# Altium footprint library SNP333.PcbLib: 10 footprints
Each footprint in its own frame and in the unit in brackets; x right, y up, seen from the top. Pads: shape width x height; smd on the part's side, far side on the other; paste and mask are expansions set on the pad; w line width, h text height; cw(c..) or ccw(c..) is an arc to the next point about the centre after c.
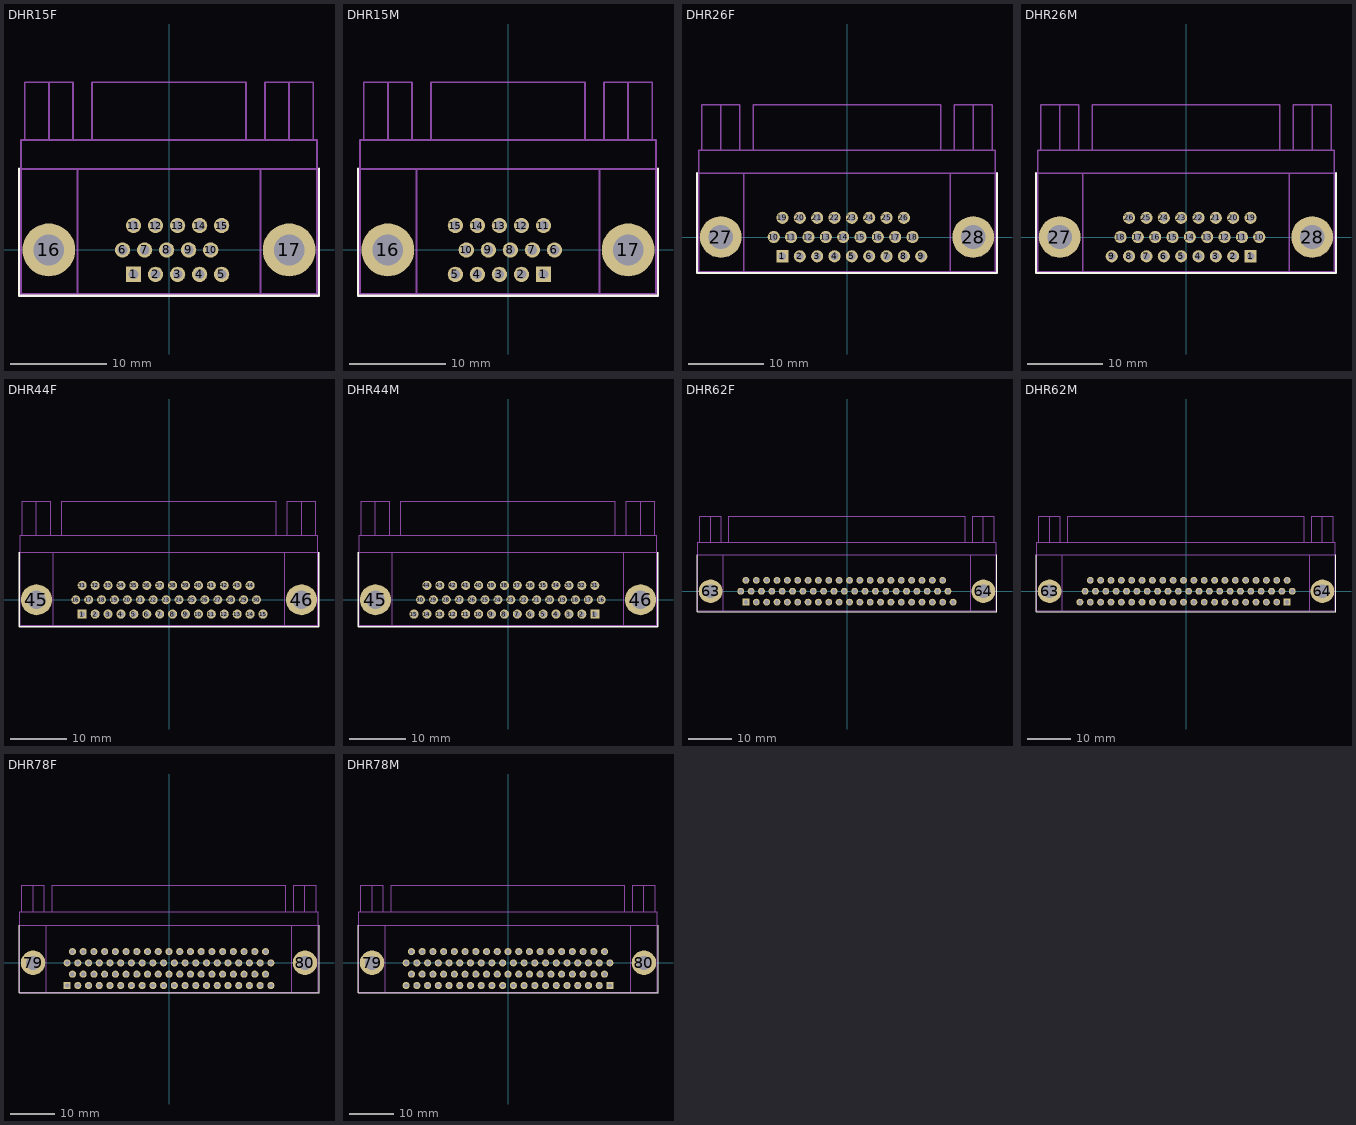
[diagram p0: the footprints below, top view; thin cyan lines are the x and y axes]

## DHR15F [mm]
pads (17):
  rect 1.6x1.6 hole 1: 1(-3.69,-2.54)
  round 1.6 hole 1: 2(-1.4,-2.54) 3(0.89,-2.54) 4(3.18,-2.54) 5(5.47,-2.54) 6(-4.83,0) 7(-2.54,0) 8(-0.25,0) 9(2.04,0) 10(4.33,0) 11(-3.69,2.54) 12(-1.4,2.54) 13(0.89,2.54) 14(3.18,2.54) 15(5.47,2.54)
  round 5.5 hole 3.2: 16(-12.5,0) 17(12.5,0)
Top Overlay:
  lines w0.25: -15.6,8.44 -15.6,-4.76 15.6,-4.76 15.6,-4.56 15.6,8.44
Mechanical 1:
  lines w0.2: -15.4,8.44 15.4,8.44 ; -15,11.44 -15,17.44 -10,17.44 -10,11.44 ; -12.5,11.44 -12.5,17.44 ; -9.5,-4.56 -9.5,8.44 ; -8,11.44 -8,17.44 8,17.44 8,11.44 ; 9.5,-4.56 9.5,8.44 ; 10,11.44 10,17.44 15,17.44 15,11.44 ; 12.5,11.44 12.5,17.44 ; -15.4,-4.56 15.4,-4.56 15.4,11.44 -15.4,11.44 -15.4,-4.56
  text ".Designator" at -3.175,9.779 h1.5
  text ".Comment" at -3.048,5.969 h1.5
  text "5" at 6.985,-3.683 h2.12
  text "15" at 6.858,1.397 h2.12
  text "1" at -6.528,-3.657 h2.12
  text "10" at 5.715,-1.143 h2.12
  text "6" at -7.528,-1.157 h2.12
  text "11" at -7.424,1.343 h2.12

## DHR15M [mm]
pads (17):
  rect 1.6x1.6 hole 1: 1(3.69,-2.54)
  round 1.6 hole 1: 2(1.4,-2.54) 3(-0.89,-2.54) 4(-3.18,-2.54) 5(-5.47,-2.54) 6(4.83,0) 7(2.54,0) 8(0.25,0) 9(-2.04,0) 10(-4.33,0) 11(3.69,2.54) 12(1.4,2.54) 13(-0.89,2.54) 14(-3.18,2.54) 15(-5.47,2.54)
  round 5.5 hole 3.2: 16(-12.5,0) 17(12.5,0)
Top Overlay:
  lines w0.25: -15.6,8.44 -15.6,-4.76 15.6,-4.76 15.6,-4.56 15.6,8.44
Mechanical 1:
  lines w0.2: -15.4,8.44 15.4,8.44 ; -15,11.44 -15,17.44 -10,17.44 -10,11.44 ; -12.5,11.44 -12.5,17.44 ; -9.5,-4.56 -9.5,8.44 ; -8,11.44 -8,17.44 8,17.44 8,11.44 ; 9.5,-4.56 9.5,8.44 ; 10,11.44 10,17.44 15,17.44 15,11.44 ; 12.5,11.44 12.5,17.44 ; -15.4,-4.56 -15.4,11.44 15.4,11.44 15.4,-4.56 -15.4,-4.56
  text "11" at 5.226,1.283 h2.12
  text "1" at 5.622,-3.797 h2.12
  text "10" at -7.924,-1.157 h2.12
  text "15" at -8.744,1.283 h2.12
  text "6" at 6.892,-1.257 h2.12
  text "5" at -8.348,-3.797 h2.12

## DHR26F [mm]
pads (28):
  rect 1.6x1.6 hole 1: 1(-8.52,-2.54)
  round 1.6 hole 1: 2(-6.23,-2.54) 3(-3.94,-2.54) 4(-1.65,-2.54) 5(0.64,-2.54) 6(2.93,-2.54) 7(5.22,-2.54) 8(7.51,-2.54) 9(9.8,-2.54) 10(-9.67,0) 11(-7.38,0) 12(-5.09,0) 13(-2.8,0) 14(-0.51,0) 15(1.78,0) 16(4.07,0) 17(6.36,0) 18(8.65,0) 19(-8.52,2.54) 20(-6.23,2.54) 21(-3.94,2.54) 22(-1.65,2.54) 23(0.64,2.54) 24(2.93,2.54) 25(5.22,2.54) 26(7.51,2.54)
  round 5.5 hole 3.2: 27(-16.65,0) 28(16.65,0)
Top Overlay:
  lines w0.25: -19.8,8.44 -19.8,-4.76 19.8,-4.76 19.8,8.44
Mechanical 1:
  lines w0.2: -19.6,8.44 19.6,8.44 ; -19.15,11.44 -19.15,17.44 -14.15,17.44 -14.15,11.44 ; -16.65,11.44 -16.65,17.44 ; -13.65,-4.56 -13.65,8.44 ; -12.35,11.44 -12.35,17.44 12.35,17.44 12.35,11.44 ; 13.65,-4.56 13.65,8.44 ; 14.15,11.44 14.15,17.44 19.15,17.44 19.15,11.44 ; 16.65,11.44 16.65,17.44 ; -19.6,-4.56 19.6,-4.56 19.6,11.44 -19.6,11.44 -19.6,-4.56
  text "9" at 11.272,-3.717 h2.12
  text "1" at -11.728,-3.717 h2.12
  text "26" at 8.876,1.283 h2.12
  text "18" at 10.376,-1.217 h2.12
  text "19" at -12.124,1.283 h2.12
  text "10" at -13.124,-1.217 h2.12

## DHR26M [mm]
pads (28):
  rect 1.6x1.6 hole 1: 1(8.52,-2.54)
  round 1.6 hole 1: 2(6.23,-2.54) 3(3.94,-2.54) 4(1.65,-2.54) 5(-0.64,-2.54) 6(-2.93,-2.54) 7(-5.22,-2.54) 8(-7.51,-2.54) 9(-9.8,-2.54) 10(9.67,0) 11(7.38,0) 12(5.09,0) 13(2.8,0) 14(0.51,0) 15(-1.78,0) 16(-4.07,0) 17(-6.36,0) 18(-8.65,0) 19(8.52,2.54) 20(6.23,2.54) 21(3.94,2.54) 22(1.65,2.54) 23(-0.64,2.54) 24(-2.93,2.54) 25(-5.22,2.54) 26(-7.51,2.54)
  round 5.5 hole 3.2: 27(-16.65,0) 28(16.65,0)
Top Overlay:
  lines w0.25: -19.8,8.44 -19.8,-4.76 19.8,-4.76 19.8,8.44
Mechanical 1:
  lines w0.2: -19.6,8.44 19.6,8.44 ; -19.15,11.44 -19.15,17.44 -14.15,17.44 -14.15,11.44 ; -16.65,11.44 -16.65,17.44 ; -13.65,-4.56 -13.65,8.44 ; -12.35,11.44 -12.35,17.44 12.35,17.44 12.35,11.44 ; 13.65,-4.56 13.65,8.44 ; 14.15,11.44 14.15,17.44 19.15,17.44 19.15,11.44 ; 16.65,11.44 16.65,17.44 ; -19.6,-4.56 19.6,-4.56 19.6,11.44 -19.6,11.44 -19.6,-4.56
  text "1" at 9.432,-3.797 h2.12
  text "9" at -12.158,-3.797 h2.12
  text "19" at 10.306,1.283 h2.12
  text "10" at 10.376,-1.217 h2.12
  text "18" at -12.554,-1.257 h2.12
  text "26" at -11.284,1.283 h2.12

## DHR44F [mm]
pads (46):
  rect 1.6x1.6 hole 1: 1(-15.39,-2.54)
  round 1.6 hole 1: 2(-13.1,-2.54) 3(-10.81,-2.54) 4(-8.52,-2.54) 5(-6.23,-2.54) 6(-3.94,-2.54) 7(-1.65,-2.54) 8(0.64,-2.54) 9(2.93,-2.54) 10(5.22,-2.54) 11(7.51,-2.54) 12(9.8,-2.54) 13(12.09,-2.54) 14(14.38,-2.54) 15(16.67,-2.54) 16(-16.54,0) 17(-14.25,0) 18(-11.96,0) 19(-9.67,0) 20(-7.38,0) 21(-5.09,0) 22(-2.8,0) 23(-0.51,0) 24(1.78,0) 25(4.07,0) 26(6.36,0) 27(8.65,0) 28(10.94,0) 29(13.23,0) 30(15.52,0) 31(-15.39,2.54) 32(-13.1,2.54) 33(-10.81,2.54) 34(-8.52,2.54) 35(-6.23,2.54) 36(-3.94,2.54) 37(-1.65,2.54) 38(0.64,2.54) 39(2.93,2.54) 40(5.22,2.54) 41(7.51,2.54) 42(9.8,2.54) 43(12.09,2.54) 44(14.38,2.54)
  round 5.5 hole 3.2: 45(-23.5,0) 46(23.5,0)
Top Overlay:
  lines w0.25: -26.6,8.44 -26.6,-4.76 26.6,-4.76 26.6,-4.56 26.6,8.44
Mechanical 1:
  lines w0.2: -26.4,8.44 26.4,8.44 ; -26,11.44 -26,17.44 -21,17.44 -21,11.44 ; -23.5,11.44 -23.5,17.44 ; -20.5,-4.56 -20.5,8.44 ; -19,11.44 -19,17.44 19,17.44 19,11.44 ; 20.5,-4.56 20.5,8.44 ; 21,11.44 21,17.44 26,17.44 26,11.44 ; 23.5,11.44 23.5,17.44 ; -26.4,-4.56 26.4,-4.56 26.4,11.44 -26.4,11.44 -26.4,-4.56
  text "15" at 17.276,-3.717 h2.12
  text "1" at -18.828,-3.717 h2.12
  text "30" at 16.776,-1.217 h2.12
  text "44" at 15.276,1.283 h2.12
  text "16" at -20.224,-1.217 h2.12
  text "31" at -19.224,1.283 h2.12

## DHR44M [mm]
pads (46):
  rect 1.6x1.6 hole 1: 1(15.39,-2.54)
  round 1.6 hole 1: 2(13.1,-2.54) 3(10.81,-2.54) 4(8.52,-2.54) 5(6.23,-2.54) 6(3.94,-2.54) 7(1.65,-2.54) 8(-0.64,-2.54) 9(-2.93,-2.54) 10(-5.22,-2.54) 11(-7.51,-2.54) 12(-9.8,-2.54) 13(-12.09,-2.54) 14(-14.38,-2.54) 15(-16.67,-2.54) 16(16.54,0) 17(14.25,0) 18(11.96,0) 19(9.67,0) 20(7.38,0) 21(5.09,0) 22(2.8,0) 23(0.51,0) 24(-1.78,0) 25(-4.07,0) 26(-6.36,0) 27(-8.65,0) 28(-10.94,0) 29(-13.23,0) 30(-15.52,0) 31(15.39,2.54) 32(13.1,2.54) 33(10.81,2.54) 34(8.52,2.54) 35(6.23,2.54) 36(3.94,2.54) 37(1.65,2.54) 38(-0.64,2.54) 39(-2.93,2.54) 40(-5.22,2.54) 41(-7.51,2.54) 42(-9.8,2.54) 43(-12.09,2.54) 44(-14.38,2.54)
  round 5.5 hole 3.2: 45(-23.5,0) 46(23.5,0)
Top Overlay:
  lines w0.25: -26.6,8.44 -26.6,-4.76 26.6,-4.76 26.6,-4.56 26.6,8.44
Mechanical 1:
  lines w0.2: -26.4,8.44 26.4,8.44 ; -26,11.44 -26,17.44 -21,17.44 -21,11.44 ; -23.5,11.44 -23.5,17.44 ; -20.5,-4.56 -20.5,8.44 ; -19,11.44 -19,17.44 19,17.44 19,11.44 ; 20.5,-4.56 20.5,8.44 ; 21,11.44 21,17.44 26,17.44 26,11.44 ; 23.5,11.44 23.5,17.44 ; -26.4,-4.56 26.4,-4.56 26.4,11.44 -26.4,11.44 -26.4,-4.56
  text "1" at 17.052,-3.797 h2.12
  text "15" at -20.174,-3.797 h2.12
  text "31" at 16.656,1.283 h2.12
  text "16" at 17.926,-1.257 h2.12
  text "44" at -17.634,1.283 h2.12
  text "30" at -18.904,-1.257 h2.12

## DHR62F [mm]
pads (64):
  rect 1.6x1.6 hole 1: 1(-23.52,-2.54)
  round 1.6 hole 1: 2(-21.11,-2.54) 3(-18.7,-2.54) 4(-16.29,-2.54) 5(-13.88,-2.54) 6(-11.47,-2.54) 7(-9.06,-2.54) 8(-6.65,-2.54) 9(-4.24,-2.54) 10(-1.83,-2.54) 11(0.58,-2.54) 12(2.99,-2.54) 13(5.4,-2.54) 14(7.81,-2.54) 15(10.22,-2.54) 16(12.63,-2.54) 17(15.04,-2.54) 18(17.45,-2.54) 19(19.86,-2.54) 20(22.27,-2.54) 21(24.68,-2.54) 22(-24.72,0) 23(-22.31,0) 24(-19.9,0) 25(-17.49,0) 26(-15.08,0) 27(-12.67,0) 28(-10.26,0) 29(-7.85,0) 30(-5.44,0) 31(-3.03,0) 32(-0.62,0) 33(1.79,0) 34(4.2,0) 35(6.61,0) 36(9.02,0) 37(11.43,0) 38(13.84,0) 39(16.25,0) 40(18.66,0) 41(21.07,0) 42(23.48,0) 43(-23.52,2.54) 44(-21.11,2.54) 45(-18.7,2.54) 46(-16.29,2.54) 47(-13.88,2.54) 48(-11.47,2.54) 49(-9.06,2.54) 50(-6.65,2.54) 51(-4.24,2.54) 52(-1.83,2.54) 53(0.58,2.54) 54(2.99,2.54) 55(5.4,2.54) 56(7.81,2.54) 57(10.22,2.54) 58(12.63,2.54) 59(15.04,2.54) 60(17.45,2.54) 61(19.86,2.54) 62(22.27,2.54)
  round 5.5 hole 3.2: 63(-31.75,0) 64(31.75,0)
Top Overlay:
  lines w0.25: -34.9,8.44 -34.9,-4.76 34.9,-4.76 34.9,8.44
Mechanical 1:
  lines w0.2: -34.7,8.44 34.7,8.44 ; -34.25,11.44 -34.25,17.44 -29.25,17.44 -29.25,11.44 ; -31.75,11.44 -31.75,17.44 ; -28.8,-4.56 -28.8,8.44 ; -27.5,11.44 -27.5,17.44 27.5,17.44 27.5,11.44 ; 28.8,-4.56 28.8,8.44 ; 29.25,11.44 29.25,17.44 34.25,17.44 34.25,11.44 ; 31.75,11.44 31.75,17.44 ; -34.7,-4.56 34.7,-4.56 34.7,11.44 -34.7,11.44 -34.7,-4.56
  text "21" at 24.896,-3.717 h2.12
  text "1" at -26.448,-3.717 h2.12
  text "42" at 24.396,-1.217 h2.12
  text "62" at 22.896,1.283 h2.12
  text "43" at -26.844,1.283 h2.12
  text "22" at -27.844,-1.217 h2.12

## DHR62M [mm]
pads (64):
  rect 1.6x1.6 hole 1: 1(23.52,-2.54)
  round 1.6 hole 1: 2(21.11,-2.54) 3(18.7,-2.54) 4(16.29,-2.54) 5(13.88,-2.54) 6(11.47,-2.54) 7(9.06,-2.54) 8(6.65,-2.54) 9(4.24,-2.54) 10(1.83,-2.54) 11(-0.58,-2.54) 12(-2.99,-2.54) 13(-5.4,-2.54) 14(-7.81,-2.54) 15(-10.22,-2.54) 16(-12.63,-2.54) 17(-15.04,-2.54) 18(-17.45,-2.54) 19(-19.86,-2.54) 20(-22.27,-2.54) 21(-24.68,-2.54) 22(24.72,0) 23(22.31,0) 24(19.9,0) 25(17.49,0) 26(15.08,0) 27(12.67,0) 28(10.26,0) 29(7.85,0) 30(5.44,0) 31(3.03,0) 32(0.62,0) 33(-1.79,0) 34(-4.2,0) 35(-6.61,0) 36(-9.02,0) 37(-11.43,0) 38(-13.84,0) 39(-16.25,0) 40(-18.66,0) 41(-21.07,0) 42(-23.48,0) 43(23.52,2.54) 44(21.11,2.54) 45(18.7,2.54) 46(16.29,2.54) 47(13.88,2.54) 48(11.47,2.54) 49(9.06,2.54) 50(6.65,2.54) 51(4.24,2.54) 52(1.83,2.54) 53(-0.58,2.54) 54(-2.99,2.54) 55(-5.4,2.54) 56(-7.81,2.54) 57(-10.22,2.54) 58(-12.63,2.54) 59(-15.04,2.54) 60(-17.45,2.54) 61(-19.86,2.54) 62(-22.27,2.54)
  round 5.5 hole 3.2: 63(-31.75,0) 64(31.75,0)
Top Overlay:
  lines w0.25: -34.9,8.44 -34.9,-4.76 34.9,-4.76 34.9,8.44
Mechanical 1:
  lines w0.2: -34.7,8.44 34.7,8.44 ; -34.25,11.44 -34.25,17.44 -29.25,17.44 -29.25,11.44 ; -31.75,11.44 -31.75,17.44 ; -28.8,-4.56 -28.8,8.44 ; -27.5,11.44 -27.5,17.44 27.5,17.44 27.5,11.44 ; 28.8,-4.56 28.8,8.44 ; 29.25,11.44 29.25,17.44 34.25,17.44 34.25,11.44 ; 31.75,11.44 31.75,17.44 ; -34.7,-4.56 34.7,-4.56 34.7,11.44 -34.7,11.44 -34.7,-4.56
  text "1" at 24.672,-3.797 h2.12
  text "21" at -27.794,-3.797 h2.12
  text "43" at 24.276,1.283 h2.12
  text "22" at 25.546,-1.257 h2.12
  text "62" at -25.254,1.283 h2.12
  text "42" at -26.524,-1.257 h2.12

## DHR78F [mm]
pads (80):
  rect 1.6x1.6 hole 1: 1(-22.9,-5.08)
  round 1.6 hole 1: 2(-20.49,-5.08) 3(-18.08,-5.08) 4(-15.67,-5.08) 5(-13.26,-5.08) 6(-10.85,-5.08) 7(-8.44,-5.08) 8(-6.03,-5.08) 9(-3.62,-5.08) 10(-1.21,-5.08) 11(1.2,-5.08) 12(3.61,-5.08) 13(6.02,-5.08) 14(8.43,-5.08) 15(10.84,-5.08) 16(13.25,-5.08) 17(15.66,-5.08) 18(18.07,-5.08) 19(20.48,-5.08) 20(22.89,-5.08) 21(-21.69,-2.54) 22(-19.28,-2.54) 23(-16.87,-2.54) 24(-14.46,-2.54) 25(-12.05,-2.54) 26(-9.64,-2.54) 27(-7.23,-2.54) 28(-4.82,-2.54) 29(-2.41,-2.54) 30(0,-2.54) 31(2.41,-2.54) 32(4.82,-2.54) 33(7.23,-2.54) 34(9.64,-2.54) 35(12.05,-2.54) 36(14.46,-2.54) 37(16.87,-2.54) 38(19.28,-2.54) 39(21.69,-2.54) 40(-22.9,0) 41(-20.49,0) 42(-18.08,0) 43(-15.67,0) 44(-13.26,0) 45(-10.85,0) 46(-8.44,0) 47(-6.03,0) 48(-3.62,0) 49(-1.21,0) 50(1.2,0) 51(3.61,0) 52(6.02,0) 53(8.43,0) 54(10.84,0) 55(13.25,0) 56(15.66,0) 57(18.07,0) 58(20.48,0) 59(22.89,0) 60(-21.69,2.54) 61(-19.28,2.54) 62(-16.87,2.54) 63(-14.46,2.54) 64(-12.05,2.54) 65(-9.64,2.54) 66(-7.23,2.54) 67(-4.82,2.54) 68(-2.41,2.54) 69(0,2.54) 70(2.41,2.54) 71(4.82,2.54) 72(7.23,2.54) 73(9.64,2.54) 74(12.05,2.54) 75(14.46,2.54) 76(16.87,2.54) 77(19.28,2.54) 78(21.69,2.54)
  round 5.5 hole 3.2: 79(-30.55,0) 80(30.55,0)
Top Overlay:
  lines w0.25: -33.7,8.44 -33.7,-6.71 33.7,-6.71 33.7,8.44
Mechanical 1:
  lines w0.2: -33.5,8.44 33.5,8.44 ; -33.05,11.44 -33.05,17.44 -28.05,17.44 -28.05,11.44 ; -30.55,11.44 -30.55,17.44 ; -27.6,-6.56 -27.6,8.44 ; -26.25,11.44 -26.25,17.44 26.25,17.44 26.25,11.44 ; 27.6,-6.56 27.6,8.44 ; 28.05,11.44 28.05,17.44 33.05,17.44 33.05,11.44 ; 30.55,11.44 30.55,17.44 ; -33.5,-6.56 33.5,-6.56 33.5,11.44 -33.5,11.44 -33.5,-6.56
  text "78" at 23.006,1.283 h2.12
  text "20" at 24.276,-6.337 h2.12
  text "60" at -25.254,1.283 h2.12
  text "1" at -26.128,-6.337 h2.12
  text "39" at 23.006,-3.797 h2.12
  text "59" at 24.276,-1.257 h2.12
  text "21" at -25.254,-3.797 h2.12
  text "40" at -26.524,-1.257 h2.12

## DHR78M [mm]
pads (80):
  rect 1.6x1.6 hole 1: 1(22.9,-5.08)
  round 1.6 hole 1: 2(20.49,-5.08) 3(18.08,-5.08) 4(15.67,-5.08) 5(13.26,-5.08) 6(10.85,-5.08) 7(8.44,-5.08) 8(6.03,-5.08) 9(3.62,-5.08) 10(1.21,-5.08) 11(-1.2,-5.08) 12(-3.61,-5.08) 13(-6.02,-5.08) 14(-8.43,-5.08) 15(-10.84,-5.08) 16(-13.25,-5.08) 17(-15.66,-5.08) 18(-18.07,-5.08) 19(-20.48,-5.08) 20(-22.89,-5.08) 21(21.69,-2.54) 22(19.28,-2.54) 23(16.87,-2.54) 24(14.46,-2.54) 25(12.05,-2.54) 26(9.64,-2.54) 27(7.23,-2.54) 28(4.82,-2.54) 29(2.41,-2.54) 30(0,-2.54) 31(-2.41,-2.54) 32(-4.82,-2.54) 33(-7.23,-2.54) 34(-9.64,-2.54) 35(-12.05,-2.54) 36(-14.46,-2.54) 37(-16.87,-2.54) 38(-19.28,-2.54) 39(-21.69,-2.54) 40(22.9,0) 41(20.49,0) 42(18.08,0) 43(15.67,0) 44(13.26,0) 45(10.85,0) 46(8.44,0) 47(6.03,0) 48(3.62,0) 49(1.21,0) 50(-1.2,0) 51(-3.61,0) 52(-6.02,0) 53(-8.43,0) 54(-10.84,0) 55(-13.25,0) 56(-15.66,0) 57(-18.07,0) 58(-20.48,0) 59(-22.89,0) 60(21.69,2.54) 61(19.28,2.54) 62(16.87,2.54) 63(14.46,2.54) 64(12.05,2.54) 65(9.64,2.54) 66(7.23,2.54) 67(4.82,2.54) 68(2.41,2.54) 69(0,2.54) 70(-2.41,2.54) 71(-4.82,2.54) 72(-7.23,2.54) 73(-9.64,2.54) 74(-12.05,2.54) 75(-14.46,2.54) 76(-16.87,2.54) 77(-19.28,2.54) 78(-21.69,2.54)
  round 5.5 hole 3.2: 79(-30.55,0) 80(30.55,0)
Top Overlay:
  lines w0.25: -33.7,8.44 -33.7,-6.71 33.7,-6.71 33.7,8.44
Mechanical 1:
  lines w0.2: -33.5,8.44 33.5,8.44 ; -33.05,11.44 -33.05,17.44 -28.05,17.44 -28.05,11.44 ; -30.55,11.44 -30.55,17.44 ; -27.6,-6.56 -27.6,8.44 ; -26.25,11.44 -26.25,17.44 26.25,17.44 26.25,11.44 ; 27.6,-6.56 27.6,8.44 ; 28.05,11.44 28.05,17.44 33.05,17.44 33.05,11.44 ; 30.55,11.44 30.55,17.44 ; -33.5,-6.56 -33.5,11.44 33.5,11.44 33.5,-6.56 -33.5,-6.56
  text "39" at -25.254,-3.797 h2.12
  text "59" at -26.524,-1.257 h2.12
  text "21" at 23.006,-3.797 h2.12
  text "40" at 24.276,-1.257 h2.12
  text "20" at -26.524,-6.337 h2.12
  text "78" at -25.254,1.283 h2.12
  text "1" at 24.672,-6.337 h2.12
  text "60" at 23.006,1.283 h2.12